# EAGLE library part DRV8870 (library Eagle CMR)
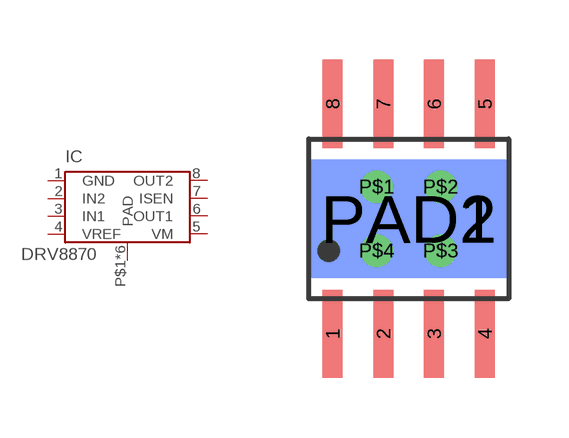
[diagram p9: symbol with the pads of SOIC08; footprint SOIC08]

Designator prefix IC

## DRV8870  [SOIC08]
1  GND
2  IN2
3  IN1
4  VREF
5  VM
6  OUT1
7  ISEN
8  OUT2
P$1  PAD
P$2  PAD
P$3  PAD
P$4  PAD
PAD1  PAD
PAD2  PAD

## Footprint SOIC08 (pad centres in mm)
smd 0.5 x 2.2: 1 -1.905,-2.875; 2 -0.635,-2.875; 3 0.635,-2.875; 4 1.905,-2.875; 5 1.905,2.875; 6 0.635,2.875; 7 -0.635,2.875; 8 -1.905,2.875
drill 0.3: P$1 -0.8,0.8; P$2 0.8,0.8; P$3 0.8,-0.8; P$4 -0.8,-0.8
smd 4.9 x 2.95 bottom: PAD1 0,0
smd 4.9 x 2.95: PAD2 0,0